# Altium schematic symbol library 20210518.SchLib: 325 symbols (part 3 of 3)
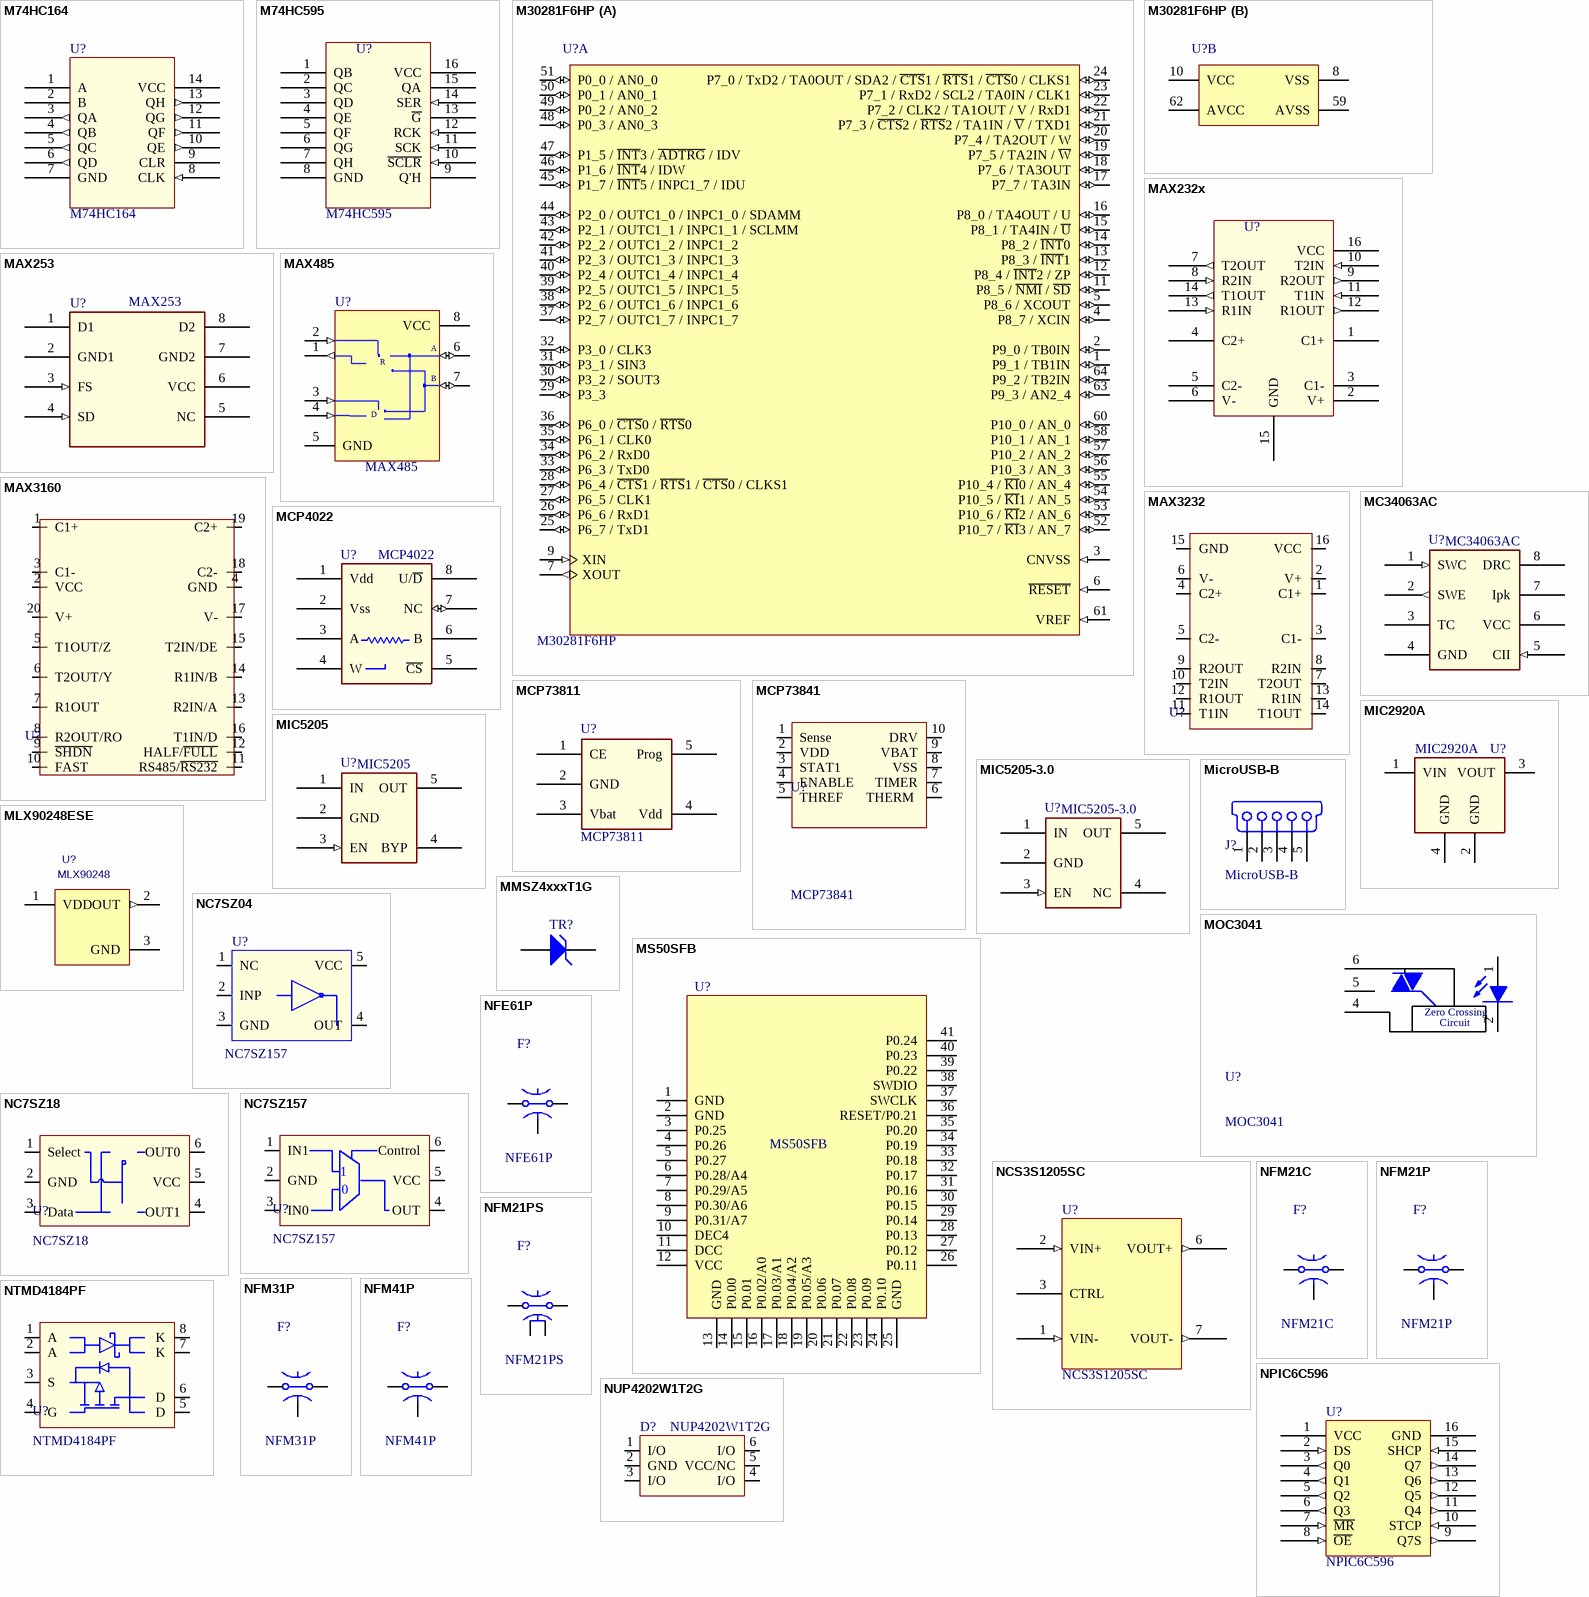
[diagram p15: symbols M74HC164 to NUP4202W1T2G]

## MC34063AC
designator U?
DC-DC Reg; Producer: ST; ComponentLink2Description: SMD; Value: MC34063AC
footprint SOIC8 (SOIC, 8-Leads, Body 5,0x4,0mm (max), Pitch 1,27mm, IPC Low Density)
footprint PDIP-8
pins: 1 SWC (in) "Switch Collector", 2 SWE (out) "Switch Emiter", 3 TC "Timing Capacitor", 4 GND (power), 5 CII (in) "Comparator Inveting Input", 6 VCC (power), 7 Ipk "Ipk sense", 8 DRC

## MCP4022
designator U?
Microchip Digital Potentiometer; ComponentLink2Description: SMD; Value: MCP4022
footprint SOIC8 (SOIC, 8-Leads, Body 5,0x4,0mm (max), Pitch 1,27mm, IPC Low Density)
pins: 1 Vdd (power), 2 Vss (power), 3 A, 4 W, 5 ~{CS} (power), 6 B, 7 NC (io), 8 U/~{D} (power)

## MCP73811
designator U?
Li-Ion Charger; Producer: Microchip; ComponentLink2Description: SMD; Value: MCP73811
footprint SOT23-5 (SOT23, 5-Leads, Body 3,0x3,0mm (max), Pitch 0,95mm, IPC Low Density)
pins: 1 CE (power) "Charge Enable", 2 GND (power), 3 Vbat (power) "Battery Power", 4 Vdd (power), 5 Prog (power) "100mA/500mA"

## MCP73841
designator U?
Li-Ion Charger; Producer: Microchip; info: Vin = 4.5V  to 12V; ComponentLink2Description: SMD; Value: MCP73841
footprint MSOP-Power Pad
pins: 1 Sense, 2 VDD, 3 STAT1, 4 ENABLE, 5 THREF, 6 THERM , 7 TIMER, 8 VSS, 9 VBAT, 10 DRV

## MIC2920A
designator U?
400mA 3.3V Low Dropout Linear Regulator; Value: MIC2920A; ComponentLink2Description: SMD; ComponentLink3Description: *
footprint SOT223 (SOT223, 4-Leads, Body 6,7x7,3mm (max), Pitch 2,30mm, IPC Low Density)
pins: 1 VIN (power), 2 GND, 3 VOUT (power), 4 GND (power)

## MIC5205
designator U?
5V LDO; Producer: Micrel; ComponentLink2Description: SMD; Value: MIC5205
footprint SOT23-5 (SOT23, 5-Leads, Body 3,0x3,0mm (max), Pitch 0,95mm, IPC Low Density)
pins: 1 IN (power), 2 GND (power), 3 EN (in), 4 BYP, 5 OUT (power)

## MIC5205-3.0
designator U?
3V LDO; Producer: Micrel; ComponentLink2Description: SMD; Value: MIC5205-3.0
footprint SOT23-5 (SOT23, 5-Leads, Body 3,0x3,0mm (max), Pitch 0,95mm, IPC Low Density)
pins: 1 IN (power), 2 GND (power), 3 EN (in), 4 NC, 5 OUT (power)

## MicroUSB-B
designator J?
Molex MicroUSB-B; Value: MicroUSB-B; ComponentLink2Description: AX; ComponentLink3Description: *
footprint MicroUSB-B (Molex MicroUSB-B Footprint)
pins: 1 V BUS (5V) "USB Vcc [Red]", 2 D- "USB Data - [White]", 3 D+ "USB Data + [Green]", 4 NC "Not Connected (or joined to pin 5 via resistor)", 5 GND "Ground [Black]", MH1 Tab hidden to GND "Shell", MH2 Tab hidden to GND "Shell", MH3 Tab hidden to GND "Shell", MH4 Tab hidden to GND "Shell"

## MLX90248ESE
designator U?, comment MLX90248
MAG SWITCH OMNIPOLAR TSOT23-3; Value: MLX90248ESE; C: Copyright (C) 2018 Accelerated Designs. All rights reserved; Vendor: Melexis; Built_By: EMA_Cory; SourceLibrary: Add_to_database_2021-05-25; Datasheet: https://www.melexis.com/-/media/files/documents/datasheets/mlx90248-datasheet-melexis.pdf; Manufacturer_Part_Number: MLX90248ESE; Copyright: Copyright (C) 2018 Accelerated Designs. All rights reserved
footprint TSOT-3L_SE_MEL
pins: 1 VDD (power), 2 OUT (out), 3 GND (power)

## MMSZ4xxxT1G
designator TR?  (value not drawn)
TVS Diode; ComponentLink2Description: SMD
footprint SOD123
pins: 1, 2

## MOC3041
designator U?
Triac Diver; ComponentLink2Description: AX; Value: MOC3041
footprint DIP-6
pins: 1 A, 2 K, 4 Main Term, 5 No, 6 Main Term
text: Zero Crossing; Circuit

## MS50SFB
designator U?
MS50SFB 1/2/3
footprint MS50SFB (Respect stay away lines if not model 3)
pins: 1 GND, 2 GND, 3 P0.25, 4 P0.26, 5 P0.27, 6 P0.28/A4, 7 P0.29/A5, 8 P0.30/A6, 9 P0.31/A7, 10 DEC4, 11 DCC, 12 VCC, 13 GND, 14 P0.00, 15 P0.01, 16 P0.02/A0, 17 P0.03/A1, 18 P0.04/A2, 19 P0.05/A3, 20 P0.06, 21 P0.07, 22 P0.08, 23 P0.09, 24 P0.10, 25 GND, 26 P0.11, 27 P0.12, 28 P0.13, 29 P0.14, 30 P0.15, 31 P0.16, 32 P0.17, 33 P0.18, 34 P0.19, 35 P0.20, 36 RESET/P0.21, 37 SWCLK, 38 SWDIO, 39 P0.22, 40 P0.23, 41 P0.24

## NC7SZ04
designator U?, comment NC7SZ157
TinyLogic UHS Inverter; Producer: fairchildsemi; ComponentLink2Description: SMD; Datasheet: https://www.fairchildsemi.com/datasheets/NC/NC7SZ157.pdf; Value: NC7SZ157
footprint SC-88A (SC-70 5 Lead) (SC-88A (SC-70 5 Lead), 1.25x2)
pins: 1 NC, 2 INP, 3 GND, 4 OUT, 5 VCC

## NC7SZ18
designator U?
UHS 1of2 Non-Inverting De-Multiplexer; Producer: fairchildsemi; ComponentLink2Description: SMD; Datasheet: https://www.fairchildsemi.com/datasheets/NC/NC7SZ18.pdf; Value: NC7SZ18
footprint SOC70 (6-Lead,SC70,EIAJ SC88,1.25mm Wide)
pins: 1 Select, 2 GND, 3 Data, 4 OUT1, 5 VCC, 6 OUT0

## NC7SZ157
designator U?
UHS 2-Input Non-Inverting Multiplexer; Producer: fairchildsemi; ComponentLink2Description: SMD; Datasheet: https://www.fairchildsemi.com/datasheets/NC/NC7SZ157.pdf; Value: NC7SZ157
footprint SOC70 (6-Lead,SC70,EIAJ SC88,1.25mm Wide)
pins: 1 IN1, 2 GND, 3 IN0, 4 OUT, 5 VCC, 6 Control
text: 0

## NCS3S1205SC
designator U?
3W DC/DC Converter, 9-36 V Input,5V Output (MURATA); ComponentLink2Description: SMD; Value: NCS3S1205SC
footprint SIP-8_7Lead (Recom RS3 Series DC/DC Converter Footprint)
pins: 1 VIN- (in), 2 VIN+ (in), 3 CTRL, 5 NC hidden, 6 VOUT+ (out), 7 VOUT- (out), 8 NC hidden

## NFE61P
designator F?
NFE EMI; Producer: Murata; ComponentLink2Description: SMD; Value: NFE61P
footprint F.2606_3 (Ferrite Bead, Body 6.8x1.6mm, 3 pin, IPC High Density)
pins: 1, 2, 3

## NFM21C
designator F?
NFM EMI; Producer: Murata; ComponentLink2Description: SMD; Value: NFM21C
footprint F.0805_3 (Chip Capacitor, Body 2.0x1.3mm, IPC High Density)
pins: 1, 2, 3

## NFM21P
designator F?
NFM EMI; Producer: Murata; ComponentLink2Description: SMD; Value: NFM21P
footprint F.0805_3 (Chip Capacitor, Body 2.0x1.3mm, IPC High Density)
footprint Fl.0805_4 (Chip Capacitor, Body 2.0x1.3mm, NFM21PS, IPC High Density)
pins: 1, 2, 3

## NFM21PS
designator F?
NFM EMI; Producer: Murata; ComponentLink2Description: SMD; Value: NFM21PS
pins: 1, 2, 3, 4

## NFM31P
designator F?
NFM EMI; Producer: Murata; ComponentLink2Description: SMD; Value: NFM31P
footprint Fl.1206_3 (Chip Capacitor, Body 3.20mm x 1.60mm, IPC High Density)
pins: 1, 2, 3

## NFM41P
designator F?
NFM EMI; Producer: Murata; ComponentLink2Description: SMD; Value: NFM41P
footprint F.1806_3 (Ferrite Bead, Body 4.5x1.6mm, 3 pin, IPC High Density)
pins: 1, 2, 3

## NPIC6C596
designator U?
Power logic 8-bit shift register; open-drain outputs; Value: NPIC6C596
footprint TSSOP16 (TSSOP, 16-Leads, Body 5,00x4,40mm, Pitch 0,65mm, IPC Medium Density)
pins: 1 VCC (power), 2 DS (in), 3 Q0 (out), 4 Q1 (out), 5 Q2 (out), 6 Q3 (out), 7 ~{MR} (in), 8 ~{OE} (in), 9 Q7S (out), 10 STCP (in), 11 Q4 (out), 12 Q5 (out), 13 Q6 (out), 14 Q7 (out), 15 SHCP (in), 16 GND (power)

## NTMD4184PF
designator U?
P Channel Power MOSFET and  Schottky Diode; Producer: ON Semiconductor; ComponentLink2Description: SMD; Datasheet: http://www.onsemi.com/pub_link/Collateral/NTMD4184PF-D.PDF; Value: NTMD4184PF
footprint SOIC8 (SOIC, 8-Leads, Body 5,0x4,0mm (max), Pitch 1,27mm, IPC Low Density)
pins: 1 A, 2 A, 3 S, 4 G, 5 D, 6 D, 7 K, 8 K

## NUP4202W1T2G
designator D?
ESD Protection Diode, Low  Clamping Voltage
footprint SC-88
pins: 1 I/O, 2 GND, 3 I/O, 4 I/O, 5 VCC/NC, 6 I/O

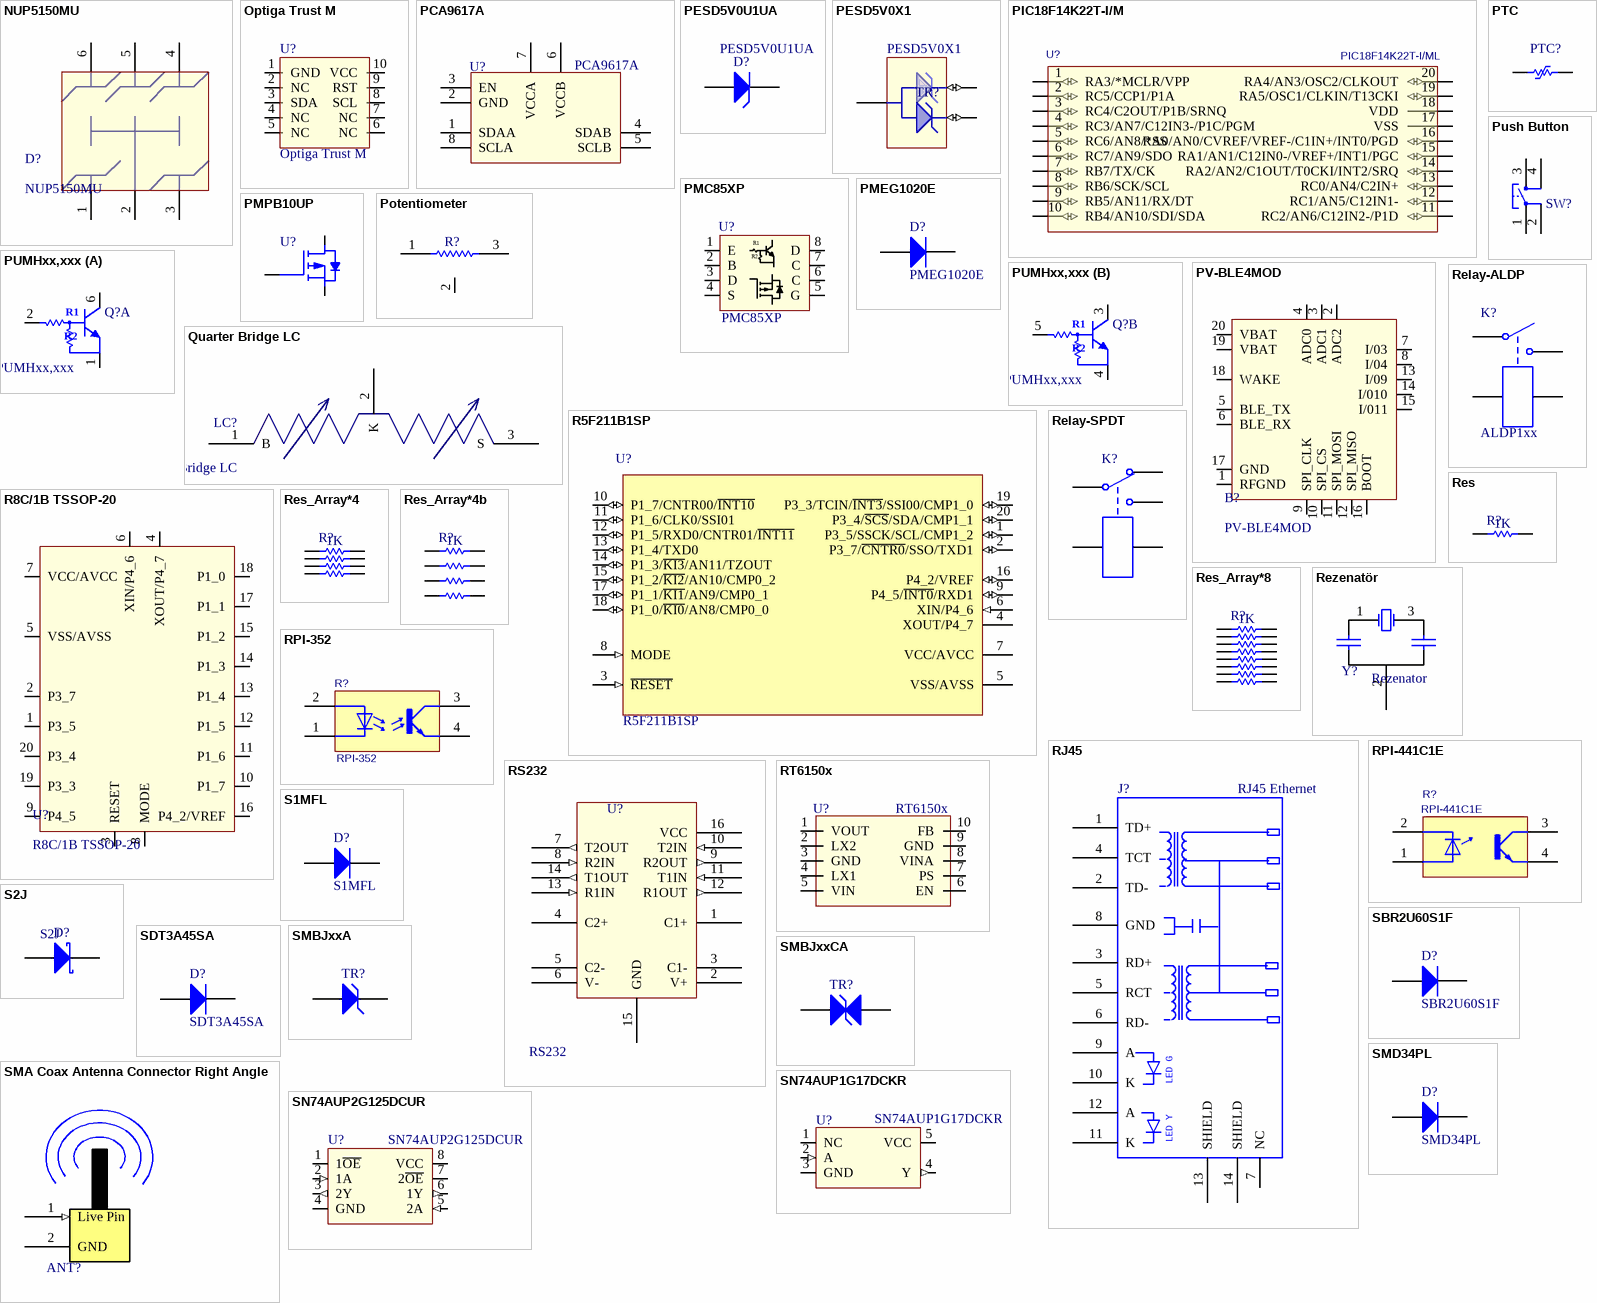
[diagram p11: symbols NUP5150MU to SN74AUP2G125DCUR]

## NUP5150MU
designator D?
5-Line Transient Voltage  Suppressor Array; Producer: Onsemi; ComponentLink2Description: SMD; Datasheet: http://www.onsemi.com/pub_link/Collateral/NUP5150-D.PDF; Value: NUP5150MU
footprint UDFN6 (.50)
pins: 1 Katot, 2 Anot, 3 Anot, 4 Anot, 5 Anot, 6 Anot

## Optiga Trust M
designator U?
Enhanced device security solution; MfcNumber: SLS32AIA010MSUSON10XTMA2; ProductLink: https://www.infineon.com/cms/en/product/security-smart-card-solutions/optiga-embedded-security-solutions/optiga-trust/optiga-trust-m-sls32aia/
footprint PG-USON-10-2/4 (PG-USON-10-2,-4 Package Outline)
pins: 1 GND, 2 NC, 3 SDA, 4 NC, 5 NC, 6 NC, 7 NC, 8 SCL, 9 RST, 10 VCC

## PCA9617A
designator U?
Level translating Fm+ I2C-bus repeater; Detailed: PCA9617A
footprint DFN200X300X60-9N
footprint TSSOP8
pins: 1 SDAA, 2 GND, 3 EN, 4 SDAB, 5 SCLB, 6 VCCB, 7 VCCA, 8 SCLA, 9 GND hidden

## PESD5V0U1UA
designator D?
Ultra low capacitance unidirectional ElectroStatic Discharge (ESD) protection diodes; Producter: NXP; ComponentLink2Description: SMD; Datasheet: http://www.nxp.com/documents/data_sheet/PESD5V0U1UA_UB_UL.pdf; Value: PESD5V0U1UA
footprint SOD323 (SODFL, 2-Leads, Body 1,30x5,35mm, IPC Medium Density)
pins: 1 K, 2 A

## PESD5V0X1
designator TR?
TVS Array; Producer: NXP; ComponentLink2Description: SMD; Value: PESD5V0X1
footprint SOT23-3 (SOT23, 3-Leads, Body 3,0x2,5mm (max), Pitch 0,95mm, IPC Low Density)
pins: 1 (io), 2 (io), 3 (power)

## PIC18F14K22T-I/M
designator U?, comment PIC18F14K22T-I/ML
PIC series Microcontroller IC 8-Bit 64MHz 16KB (8K x 16) FLASH 20-QFN (4x4); Detailed: PIC18F14K22T-I/MLCT-ND
footprint PIC18F14K22-X/01
pins: 1 RA3/*MCLR/VPP (io), 2 RC5/CCP1/P1A (io), 3 RC4/C2OUT/P1B/SRNQ (io), 4 RC3/AN7/C12IN3-/P1C/PGM (io), 5 RC6/AN8/*SS (io), 6 RC7/AN9/SDO (io), 7 RB7/TX/CK (io), 8 RB6/SCK/SCL (io), 9 RB5/AN11/RX/DT (io), 10 RB4/AN10/SDI/SDA (io), 11 RC2/AN6/C12IN2-/P1D (io), 12 RC1/AN5/C12IN1- (io), 13 RC0/AN4/C2IN+ (io), 14 RA2/AN2/C1OUT/T0CKI/INT2/SRQ (io), 15 RA1/AN1/C12IN0-/VREF+/INT1/PGC (io), 16 RA0/AN0/CVREF/VREF-/C1IN+/INT0/PGD (io), 17 VSS (power), 18 VDD (power), 19 RA5/OSC1/CLKIN/T13CKI (io), 20 RA4/AN3/OSC2/CLKOUT (io)

## PMC85XP
designator U?
MOSFET NPN/P CH 30V 2.6A 6HUSON; Bias Resistor: R1/R2 = 4k7 / 47k
footprint DFN2020-6
pins: 1 E, 2 B, 3 D, 4 S, 5 G, 6 C, 7 C, 8 D
text: R1; R2

## PMEG1020E
designator D?
DIODE SCHOTTKY 10V 2A SOD123F
footprint SOD123F
pins: 1, 2

## PMPB10UP
designator U?  (value not drawn)
12 V, P-channel Trench MOSFET
footprint U-DFN2020-6
pins: 1 D, 2 D, 3 G, 4 S, 5 D, 6 D, 7 D, 8 S

## Potentiometer
designator R?  (value not drawn)
Potentiometer; ComponentLink2Description: SMD; Value: *
simulation model RESISTOR (Resistor)
signal-integrity model Res
footprint Potentiometer (Bourns Potentiometer)
pins: 1, 2, 3 A

## PTC
designator PTC?
Polymeric PTC Resettable Fuse 0805; Supplier Part Number 1: 0ZCH0010FF2E
footprint SMD Chip 0805 (Custom 0805 Package)
footprint 0ZCH0010FF2E (Polymeric PTC Resettable Fuse 60V 100mA Ih Surface Mount 1210 (3225 Metric), Concave)
pins: 1, 2

## PUMHxx,xxx
designator Q?
TRANS 2NPN PREBIAS 0.3W 6TSSOP; PUMH10,115: 2k2/47k; PUMH20,115: 2k2/2k2; PUMH9,115: 10k/47k
footprint SOT-363
part A pins: 1 E1, 2 B1, 6 C1
part B pins: 3 C2, 4 E2, 5 B2
part A text: R1; R2
part B text: R1; R2

## Push Button
designator SW?  (value not drawn)
footprint Tact_THD_6x6_17mm
pins: 1, 2, 3, 4

## PV-BLE4MOD
designator B?
Bluetooth Low Energy Modül; Producer: Pavotek; Value: PV-BLE4MOD; ComponentLink2Description: SMD; DataSheet: -
footprint PV-BLE4MOD
pins: 1 RFGND, 2 ADC2, 3 ADC1, 4 ADC0, 5 BLE_TX, 6 BLE_RX, 7 I/03, 8 I/04, 9 SPI_CLK, 10 SPI_CS, 11 SPI_MOSI, 12 SPI_MISO, 13 I/09, 14 I/010, 15 I/011, 16 BOOT, 17 GND, 18 WAKE, 19 VBAT, 20 VBAT

## Quarter Bridge LC
designator LC?
Value: Quarter Bridge LC
pins: 1 B, 2 K, 3 S

## R5F211B1SP
designator U?
R8C/1B Group Single Chip 16-Bit CMOS MCU, 4K ROM, Standard Version; Published: 30-Oct-2009; DatasheetVersion: Rev.1.40, Dec-2006; PackageVersion: Sep-2005; PackageReference: PLSP0020JB-A; Publisher: Altium Limited; PackageDescription: 20-Pin Plastic Low Profile Shrink SOP, 6.5 x 4.4 x 1.15 mm Body, 0.65 mm Pitch; Code_JEITA: P-LSSOP20-4.4x6.5-0.65; Code_JEDEC: MO-152-AC; ComponentLink1Description: Manufacturer Link; ComponentLink1URL: http://sg.renesas.com/fmwk.jsp?cnt=r8c_family_landing.jsp&fp=/products/mpumcu/r8c_family/; ComponentLink2Description: Datasheet; ComponentLink2URL: http://documentation.renesas.com/eng/products/mpumcu/rej03b0144_r8c1a1bds.pdf; ComponentLink3Description: Packaging Specification; ComponentLink3URL: http://sg.renesas.com/media/products/common_info/package/pdf/ic/code/plsp0020jb_a.pdf; ComponentLink2Description: SMD; Value: R5F211B1SP
footprint TSOP20 (TSOP, 20-Leads, Body 6,6x4,5mm (max), Pitch 0,65mm, IPC Medium Density)
pins: 1 P3_5/SSCK/SCL/CMP1_2 (io), 2 P3_7/~{CNTR0}/SSO/TXD1 (io), 3 ~{RESET} (in), 4 XOUT/P4_7, 5 VSS/AVSS (power), 6 XIN/P4_6 (in), 7 VCC/AVCC (power), 8 MODE (in), 9 P4_5/~{INT0}/RXD1 (io), 10 P1_7/CNTR00/~{INT10} (io), 11 P1_6/CLK0/SSI01 (io), 12 P1_5/RXD0/CNTR01/~{INT11} (io), 13 P1_4/TXD0 (io), 14 P1_3/~{KI3}/AN11/TZOUT (io), 15 P1_2/~{KI2}/AN10/CMP0_2 (io), 16 P4_2/VREF (io), 17 P1_1/~{KI1}/AN9/CMP0_1 (io), 18 P1_0/~{KI0}/AN8/CMP0_0 (io), 19 P3_3/TCIN/~{INT3}/SSI00/CMP1_0 (io), 20 P3_4/~{SCS}/SDA/CMP1_1 (io)

## R8C/1B TSSOP-20
designator U?
Renesas MCU
footprint TSSOP-20
pins: 1 P3_5, 2 P3_7, 3 RESET, 4 XOUT/P4_7, 5 VSS/AVSS, 6 XIN/P4_6, 7 VCC/AVCC, 8 MODE, 9 P4_5, 10 P1_7, 11 P1_6, 12 P1_5, 13 P1_4, 14 P1_3, 15 P1_2, 16 P4_2/VREF, 17 P1_1, 18 P1_0, 19 P3_3, 20 P3_4

## Relay-ALDP
designator K?, comment ALDP1xx
Panasonic LD-P Relays, 1 Form A; Value: ALDP1xx
footprint RELAY-ALDP
pins: 1, 2, 3, 4

## Relay-SPDT
designator K?
Single-Pole Dual-Throw Relay; Published: 24-Mar-1999; LatestRevisionDate: 17-Jul-2002; LatestRevisionNote: Re-released for DXP Platform.; PackageReference: MODULE5B; Publisher: Altium Limited
footprint Relay-SPDT
pins: 1, 2, 3, 4, 5

## Res
designator R?, comment 1K
Resistor; ComponentLink2Description: SMD; Value: 1K
simulation model RESISTOR (Resistor)
signal-integrity model Res
footprint R.0603 (Chip Resistor, Body 1.6x0.8mm, IPC High Density)
footprint R.0805 (Chip Resistor, Body 2.0x1.3mm, IPC High Density)
footprint R.1206 (Chip Resistor, Body 3.1x1.6mm, IPC High Density)
footprint AXIAL-7.62PX0.85HLX5.08LX1.524WX1.524H (Axial Device, 7.62 pin space, body 5.05mmx1.524mm, 0.85mm hole, 1.524mm height)
footprint 14-1210 (Chip Resistor, Body 3.2x2.5mm, IPC High Density)
footprint R.2512
pins: 1, 2

## Res_Array*4
designator R?, comment 1K
Resistor; ComponentLink2Description: SMD; Value: 1K
simulation model RESISTOR (Resistor)
signal-integrity model Res
footprint Rx4.1206 (4xChip Resistor, Body 1.6x0.8mm, IPC High Density)
pins: 1, 2, 3, 4, 5, 6, 7, 8

## Res_Array*4b
designator R?, comment 1K
Resistor; ComponentLink2Description: SMD; Value: 1K
simulation model RESISTOR (Resistor)
signal-integrity model Res
footprint Rx4.1206 (4xChip Resistor, Body 1.6x0.8mm, IPC High Density)
pins: 1, 2, 3, 4, 5, 6, 7, 8

## Res_Array*8
designator R?, comment 1K
Resistor; ComponentLink2Description: SMD; Value: 1K
simulation model RESISTOR (Resistor)
signal-integrity model Res
pins: 1, 2, 3, 4, 5, 6, 7, 8, 9, 10, 11, 12, 13, 14, 15, 16

## Rezenatör
designator Y?, comment Rezenator
Value: Rezenator
pins: 1 OSC1, 2, 3 OSC2

## RJ45
designator J?, comment RJ45 Ethernet
Trafolu Ethernet Konektörü; Value: RJ45 Ethernet
footprint RJ45_Magnets (Chip Resistor, Body 3.1x1.6mm, IPC High Density)
pins: 1 TD+, 2 TD-, 3 RD+, 4 TCT, 5 RCT, 6 RD-, 7 NC, 8 GND, 9 A, 10 K, 11 K, 12 A, 13 SHIELD, 14 SHIELD
text: LED G; LED Y

## RPI-352
designator R?
SENSOR OPT SLOT PHOTOTRAN PCB MT; C: Copyright (C) 2018 Accelerated Designs. All rights reserved; Vendor: ROHM Semiconductor; Built_By: EMA_Matt; SourceLibrary: Rohm_2019-09-23; Value: RPI-352; Manufacturer_Part_Number: RPI-352; Copyright: Copyright (C) 2018 Accelerated Designs. All rights reserved
footprint TRANS_RPI-3_ROM
pins: 1, 2, 3, 4

## RPI-441C1E
designator R?
SENSOR OPT SLOT TRANSISTOR MODUL; C: Copyright (C) 2018 Accelerated Designs. All rights reserved; Vendor: ROHM Semiconductor; Built_By: EMA_Matt; SourceLibrary: Rohm_2019-09-23; Value: RPI-441C1E; Manufacturer_Part_Number: RPI-441C1E; Copyright: Copyright (C) 2018 Accelerated Designs. All rights reserved
footprint TRANS_RPI-441_RO
pins: 1, 2, 3, 4

## RS232
designator U?
Dual RS232 Driver/Receiver; ComponentLink2Description: SMD; Value: RS232
footprint SOIC16 (SOIC, 16-Leads, Body 10,0x4,0mm (max), Pitch 1,27mm, IPC Low Density)
pins: 1 C1+, 2 V+ (power), 3 C1-, 4 C2+, 5 C2-, 6 V- (power), 7 T2OUT (out), 8 R2IN (in), 9 R2OUT (out), 10 T2IN (in), 11 T1IN (in), 12 R1OUT (out), 13 R1IN (in), 14 T1OUT (out), 15 GND (power), 16 VCC (power)

## RT6150x
designator U?
Current Mode Buck-Boost Converter
footprint VSON-10-DSK0010A/DRC0010J (3 mm x 3 mm)
pins: 1 VOUT, 2 LX2, 3 GND, 4 LX1, 5 VIN, 6 EN, 7 PS, 8 VINA, 9 GND, 10 FB

## S1MFL
designator D?
Diode Standard 1000V 1A Surface Mount SOD-123F; Supplier 1: Future Electronics; Supplier Part Number 1: S1MFL-REEL
footprint SOD123F
pins: 1 A, 2 K

## S2J
designator D?
Schottky Diode, S2J; ComponentLink2Description: SMD; Value: S2J
signal-integrity model D Schottky
footprint DIOM_DO214AC_SMA (Molded Diode, 2-Leads, Body 4,3x2,6mm, IPC Low Density)
pins: 1, 2

## SBR2U60S1F
designator D?
DIODE SBR 60V 2A SOD123F
footprint SOD123F
pins: 1, 2

## SDT3A45SA
designator D?
Diode Schottky 45V 3A Surface Mount SMA
footprint DO-214AC-SMA (No Polarity)
pins: 1, 2

## SMA Coax Antenna Connector Right Angle
designator ANT?  (value not drawn)
footprint SMA_90 (90 Degree SMA Connector)
pins: 1 Live Pin (in), 2 GND

## SMBJxxA
designator TR?
TVS Diode; ComponentLink2Description: SMD
footprint DO-214AC-SMA (No Polarity)
pins: 1, 2

## SMBJxxCA
designator TR?
TVS DIODE; ComponentLink2Description: SMD
footprint DO-214AC-SMA (No Polarity)
pins: 1, 2

## SMD34PL
designator D?
DIODE SCHOTTKY 3A 40V SOD123FL
footprint SOD123F
pins: 1, 2

## SN74AUP1G17DCKR
designator U?
IC BUF NON-INVERT 3.6V SC70-5
footprint SC-88A (SC-70 5 Lead) (SC-88A (SC-70 5 Lead), 1.25x2)
footprint SOT23-5 (SOT23, 5-Leads, Body 3,0x3,0mm (max), Pitch 0,95mm, IPC Low Density)
pins: 1 NC, 2 A (in), 3 GND, 4 Y (out), 5 VCC

## SN74AUP2G125DCUR
designator U?
IC BUFFER NON-INVERT 3.6V US8
footprint DCU (S-PDSO-G8) (PowerPAD PLASTIC  SMALL OUTLINE)
pins: 1 1~{OE}, 2 1A (in), 3 2Y (out), 4 GND, 5 2A (in), 6 1Y (out), 7 2~{OE}, 8 VCC

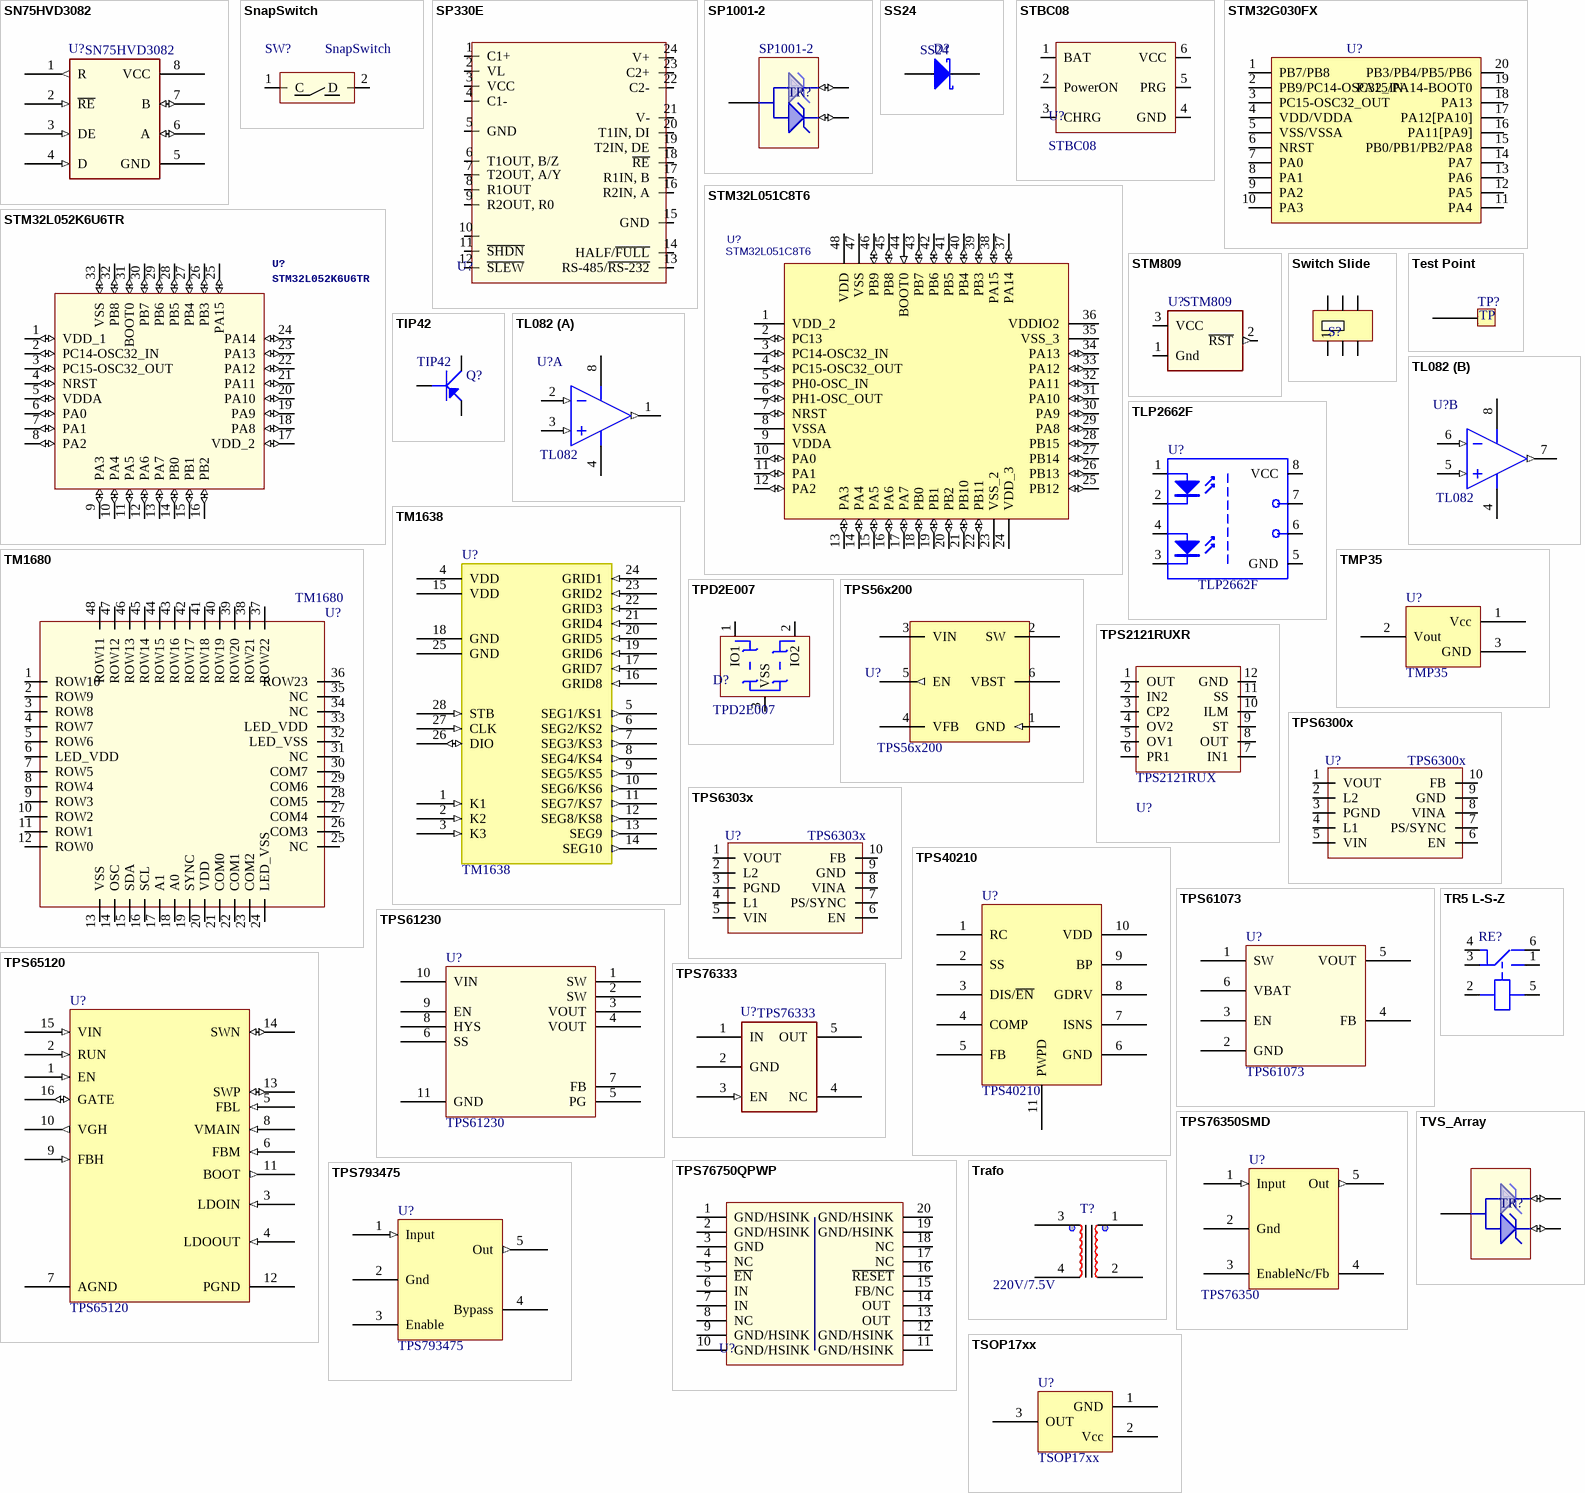
[diagram p12: symbols SN75HVD3082 to TVS_Array]

## SN75HVD3082
designator U?
RS485 Tranciever; Producer: Texas; ComponentLink2Description: SMD; Value: SN75HVD3082
footprint SOIC8 (SOIC, 8-Leads, Body 5,0x4,0mm (max), Pitch 1,27mm, IPC Low Density)
pins: 1 R (out), 2 ~{RE} (in), 3 DE (in), 4 D (in), 5 GND (power), 6 A (io), 7 B (io), 8 VCC (power)

## SnapSwitch
designator SW?
SWITCH SNAP ACTION SPDT 300MA 6V
footprint SnapSwitch_ ESE13H01D
pins: 1 C, 2 D

## SP330E
designator U?  (value not drawn)
SP330E RS-232/RS-485/RS-422 TRANSCEIVER
footprint TSSOP-24
pins: 1 C1+, 2 VL, 3 VCC, 4 C1-, 5 GND, 6 T1OUT, B/Z, 7 T2OUT, A/Y, 8 R1OUT, 9 R2OUT, R0, 10, 11 ~{SHDN}, 12 ~{SLEW}, 13 RS-485/~{RS}~{-232}, 14 HALF/~{FULL}, 15 GND, 16 R2IN, A, 17 R1IN, B, 18 ~{RE}, 19 T2IN, DE, 20 T1IN, DI, 21 V-, 22 C2-, 23 C2+, 24 V+

## SP1001-2
designator TR?
TVS Array; Producer: Littel Fuse; ComponentLink2Description: SMD; Value: SP1001-2
footprint SC70-3 (SC70-3, 3-Leads, Body 2,3x2,4mm (max), Pitch 0,66mm, IPC Low Density)
pins: 1 (io), 2 (io), 3 (power)

## SS24
designator D?
Schottky Diode, SS24; ComponentLink2Description: SMD; Value: SS24
signal-integrity model D Schottky
footprint DIOM_DO214AC_SMA (Molded Diode, 2-Leads, Body 4,3x2,6mm, IPC Low Density)
pins: 1 A, 2 K

## STBC08
designator U?
800 mA standalone linear Li-Ion battery charger   with thermal regulation; datasheet: http://www.st.com/content/ccc/resource/technical/document/datasheet/32/cd/28/84/1b/53/4e/7d/CD00132950.pdf/files/CD00132950.pdf/jcr:content/translations/en.CD00132950.pdf
footprint DFN6 (DFN6 (3x3 mm))
pins: 1 BAT, 2 PowerON, 3 CHRG, 4 GND, 5 PRG, 6 VCC

## STM32G030FX
designator U?  (value not drawn)
Arm® Cortex®-M0+ 32-bit MCU, up to 64 KB Flash, 8 KB RAM, / 2x USART, timers, ADC, comm. I/Fs, 2.0-3.6V; ComponentLink1Description: digikey; ComponentLink1URL: https://www.digikey.com/product-detail/en/stmicroelectronics/STM32G030F6P6/STM32G030F6P6-ND/10326686; ComponentLink2Description: datasheet; ComponentLink2URL: https://www.st.com/resource/en/datasheet/stm32g030f6.pdf
footprint TSSOP20
pins: 1 PB7/PB8, 2 PB9/PC14-OSC32_IN, 3 PC15-OSC32_OUT, 4 VDD/VDDA, 5 VSS/VSSA, 6 NRST, 7 PA0, 8 PA1, 9 PA2, 10 PA3, 11 PA4, 12 PA5, 13 PA6, 14 PA7, 15 PB0/PB1/PB2/PA8, 16 PA11[PA9], 17 PA12[PA10], 18 PA13, 19 PA15/PA14-BOOT0, 20 PB3/PB4/PB5/PB6

## STM32L051C8T6
designator U?
ARM® Cortex®-M0+ series Microcontroller IC 32-Bit 32MHz 64KB (64K x 8) FLASH 48-LQFP (7x7); C: Copyright (C) 2016 Accelerated Designs. All rights reserved; Vendor: STMicroelectronics; Built_By: EMA_UL_Team; SourceLibrary: Updates_to_database_2020-10-19; Value: STM32L051C8T6; Manufacturer_Part_Number: STM32L051C8T6; Copyright: Copyright (C) 2018 Accelerated Designs. All rights reserved
footprint LQFP48 (LQFP, 48-Leads, Body 9,1x9,1mm (max), Pitch 0,50mm, IPC Medium Density)
footprint LQFP48-Small
pins: 1 VDD_2 (power), 2 PC13 (io), 3 PC14-OSC32_IN (io), 4 PC15-OSC32_OUT (io), 5 PH0-OSC_IN (io), 6 PH1-OSC_OUT (io), 7 NRST (io), 8 VSSA (power), 9 VDDA (power), 10 PA0 (io), 11 PA1 (io), 12 PA2 (io), 13 PA3 (io), 14 PA4 (io), 15 PA5 (io), 16 PA6 (io), 17 PA7 (io), 18 PB0 (io), 19 PB1 (io), 20 PB2 (io), 21 PB10 (io), 22 PB11 (io), 23 VSS_2 (power), 24 VDD_3 (power), 25 PB12 (io), 26 PB13 (io), 27 PB14 (io), 28 PB15 (io), 29 PA8 (io), 30 PA9 (io), 31 PA10 (io), 32 PA11 (io), 33 PA12 (io), 34 PA13 (io), 35 VSS_3 (power), 36 VDDIO2 (power), 37 PA14 (io), 38 PA15 (io), 39 PB3 (io), 40 PB4 (io), 41 PB5 (io), 42 PB6 (io), 43 PB7 (io), 44 BOOT0 (in), 45 PB8 (io), 46 PB9 (io), 47 VSS (power), 48 VDD (power)

## STM32L052K6U6TR
designator U?
ARM® Cortex®-M0+ STM32L0 Microcontroller IC 32-Bit 32MHz 32KB (32K x 8) FLASH 32-UFQFPN (5x5); Detailed: STM32L052K6U6TR
footprint UFQFPN 32 (5x5) - STM32L052K6U6TR
pins: 1 VDD_1 (io), 2 PC14-OSC32_IN (io), 3 PC15-OSC32_OUT (io), 4 NRST (io), 5 VDDA (io), 6 PA0 (io), 7 PA1 (io), 8 PA2 (io), 9 PA3 (io), 10 PA4 (io), 11 PA5 (io), 12 PA6 (io), 13 PA7 (io), 14 PB0 (io), 15 PB1 (io), 16 PB2 (io), 17 VDD_2 (io), 18 PA8 (io), 19 PA9 (io), 20 PA10 (io), 21 PA11 (io), 22 PA12 (io), 23 PA13 (io), 24 PA14 (io), 25 PA15 (io), 26 PB3 (io), 27 PB4 (io), 28 PB5 (io), 29 PB6 (io), 30 PB7 (io), 31 BOOT0 (io), 32 PB8 (io), 33 VSS (io)

## STM809
designator U?
Reset Circuit, STM809; ComponentLink2Description: SMD; Value: STM809
footprint SOT23-3 (SOT23, 3-Leads, Body 3,0x2,5mm (max), Pitch 0,95mm, IPC Low Density)
pins: 1 Gnd (power), 2 ~{RST} (out), 3 VCC

## Switch Slide
designator S?, comment Switch Slide, DPDT 6Pin  (value not drawn)
Value: Switch Slide, DPDT 6Pin; ComponentLink2Description: AX
footprint Switch Slide (Switch Slide, DPDT 6Pin)
pins: 1, 2, 3, 4, 5, 6

## Test Point
designator TP?  (value not drawn)  (no BOM)
Custom Test Point
footprint TestPoint (Custom Test Point)
footprint TestPoint-SMD (Custom Test Point)
pins: 1
text: TP

## TIP42
designator Q?
Transistor, TIP42; ComponentLink2Description: AXIAL; ComponentLink3Description: ETRTIP42; Value: TIP42
footprint TO220 - yatik
pins: 1 B, 2 C, 3 E

## TL082
designator U?
Dual Opamp; ComponentLink3Description: MUA08A Package Page; ComponentLink2Description: SMD; Value: TL082
footprint SOIC8 (SOIC, 8-Leads, Body 5,0x4,0mm (max), Pitch 1,27mm, IPC Low Density)
pins on every part: 4 V- (power), 8 V+ (power)
part A pins: 1 OUTA (out), 2 INA- (in), 3 INA+ (in)
part B pins: 5 INB+ (in), 6 INB- (in), 7 OUTB (out)

## TLP2662F
designator U?, comment http://eu.mouser.com/ProductDetail/Toshiba/TLP2662F/?qs=7hO1d5R1Vgu8wz1vtHOfQA%3D%3D  (value not drawn)
Photocouplers, Dual,10 MBd, Inverted Logic; Datasheet: http://eu.mouser.com/ProductDetail/Toshiba/TLP2662F/?qs=7hO1d5R1Vgu8wz1vtHOfQA%3D%3D; Value: TLP2662F
pins: 1 A1 "Anode", 2 K1 "Cathode", 3 K2 (power) "Emitter", 4 A2 "Collector", 5 GND "Collector", 6 Vo2 "Collector", 7 Vo1 "Collector", 8 VCC "Collector"

## TM1638
designator U?
10 pieces 7 segment display driver
footprint SOIC28W (SOIC, 28-Leads, Body 17.90x7.55mm, Pitch 1.27mm, IPC Medium Density)
pins: 1 K1 (in), 2 K2 (in), 3 K3 (in), 4 VDD (power), 5 SEG1/KS1 (out), 6 SEG2/KS2 (out), 7 SEG3/KS3 (out), 8 SEG4/KS4 (out), 9 SEG5/KS5 (out), 10 SEG6/KS6 (out), 11 SEG7/KS7 (out), 12 SEG8/KS8 (out), 13 SEG9 (out), 14 SEG10 (out), 15 VDD (power), 16 GRID8 (in), 17 GRID7 (in), 18 GND, 19 GRID6 (in), 20 GRID5 (in), 21 GRID4 (in), 22 GRID3 (in), 23 GRID2 (in), 24 GRID1 (in), 25 GND, 26 DIO (io), 27 CLK (in), 28 STB (in)

## TM1680
designator U?
24 pieces 7 segment display driver
footprint LQFP48 (LQFP, 48-Leads, Body 9,1x9,1mm (max), Pitch 0,50mm, IPC Medium Density)
pins: 1 ROW10, 2 ROW9, 3 ROW8, 4 ROW7, 5 ROW6, 6 LED_VDD, 7 ROW5, 8 ROW4, 9 ROW3, 10 ROW2, 11 ROW1, 12 ROW0, 13 VSS, 14 OSC, 15 SDA, 16 SCL, 17 A1, 18 A0, 19 SYNC, 20 VDD, 21 COM0, 22 COM1, 23 COM2, 24 LED_VSS, 25 NC, 26 COM3, 27 COM4, 28 COM5, 29 COM6, 30 COM7, 31 NC, 32 LED_VSS, 33 LED_VDD, 34 NC, 35 NC, 36 ROW23, 37 ROW22, 38 ROW21, 39 ROW20, 40 ROW19, 41 ROW18, 42 ROW17, 43 ROW16, 44 ROW15, 45 ROW14, 46 ROW13, 47 ROW12, 48 ROW11

## TMP35
designator U?
Low Voltage Temperature Sensor; Value: TMP35; ComponentLink2Description: AX; ComponentLink3Description: *
footprint HDR3 (Connector; Header; 3 Position)
pins: 1 Vcc, 2 Vout, 3 GND

## TPD2E007
designator D?
TPD2E007 2-Channel ESD Protection Array for AC-Coupled/Negative-Rail Data Interfaces; Producer: Texas Instruments; ComponentLink2Description: SMD; Datasheet: http://www.ti.com/lit/ds/symlink/tpd2e007.pdf; Value: TPD2E007
footprint DCK(R-PDSO-G3) (PLASTIC  SMALL OUTLINE PACKAGE)
pins: 1 IO1, 2 IO2, 3 VSS

## TPS56x200
designator U?
TPS56x200 4.5-V To 17-V Input, 2-A, 3-A Synchronous Step-Down Voltage Regulator In  6 Pin SOT-23; ComponentLink2Description: SMD; Value: TPS56x200
footprint DDC(R-PDSO-G6) (TI)
pins: 1 GND (in) "INPUT", 2 SW (power), 3 VIN, 4 VFB, 5 EN (out) "out", 6 VBST

## TPS2121RUXR
designator U?, comment TPS2121RUX
OR Controller Source Selector Switch N-Channel
footprint VQFN-HR-20 (TPS2121 (RUX) Package 12-Pin VQFN-HR)
pins: 1 OUT, 2 IN2, 3 CP2, 4 OV2, 5 OV1, 6 PR1, 7 IN1, 8 OUT, 9 ST, 10 ILM, 11 SS, 12 GND

## TPS6300x
designator U?
High-Efficient Single Inductor Buck-Boost Converter With 1.8-A Switches
footprint VSON-10-DRC0010J (3 mm x 3 mm)
pins: 1 VOUT, 2 L2, 3 PGND, 4 L1, 5 VIN, 6 EN, 7 PS/SYNC, 8 VINA, 9 GND, 10 FB

## TPS6303x
designator U?
High Efficiency Single Inductor Buck-Boost Converter With 1-A Switches
footprint WSON-10-DSK0010A (2.50 mm x 2.50 mm)
pins: 1 VOUT, 2 L2, 3 PGND, 4 L1, 5 VIN, 6 EN, 7 PS/SYNC, 8 VINA, 9 GND, 10 FB

## TPS40210
designator U?
4.5-V to 52-V INPUT CURRENT-MODE BOOST CONTROLLER; Value: TPS40210
footprint MSOP-Power Pad
pins: 1 RC, 2 SS, 3 DIS/~{EN}, 4 COMP, 5 FB, 6 GND, 7 ISNS, 8 GDRV, 9 BP, 10 VDD, 11 PWPD

## TPS61073
designator U?
Synchronous Boost With 600-mA Switch; ComponentLink2Description: SMD; Value: TPS61073
footprint SOT23-6 (SOT23, 6-Leads, Body 3,0x3,0mm (max), Pitch 0,95mm, IPC Low Density)
pins: 1 SW, 2 GND, 3 EN, 4 FB, 5 VOUT, 6 VBAT

## TPS61230
designator U?
Synchronous Step Up  with 5-A Switches; ComponentLink2Description: SMD; Value: TPS61230
footprint DRC0010G
pins: 1 SW, 2 SW, 3 VOUT, 4 VOUT, 5 PG, 6 SS, 7 FB, 8 HYS, 9 EN, 10 VIN, 11 GND

## TPS65120
designator U?
SINGLE-INDUCTOR QUADRUPLE-OUTPUT TFT LCD POWER SUPPLY; Value: TPS65120
footprint PQFN127P600-8N
pins: 1 EN (in), 2 RUN (in), 3 LDOIN (in), 4 LDOOUT (in), 5 FBL (in), 6 FBM (in), 7 AGND (power), 8 VMAIN (in), 9 FBH (in), 10 VGH (out), 11 BOOT (out), 12 PGND (power), 13 SWP (io), 14 SWN (io), 15 VIN (in), 16 GATE (io)

## TPS76333
designator U?
3V3 LDO; Producer: Texas Inst.; ComponentLink2Description: SMD; Value: TPS76333
footprint SOT23-5 (SOT23, 5-Leads, Body 3,0x3,0mm (max), Pitch 0,95mm, IPC Low Density)
pins: 1 IN (power), 2 GND (power), 3 EN (in), 4 NC, 5 OUT (power)

## TPS76350SMD
designator U?, comment TPS76350
5V LDO; ComponentLink2Description: SMD; Value: TPS76350
footprint SOT23-5 (SOT23, 5-Leads, Body 3,0x3,0mm (max), Pitch 0,95mm, IPC Low Density)
pins: 1 Input (in) "INPUT", 2 Gnd (power), 3 Enable, 4 Nc/Fb, 5 Out (out) "out"

## TPS76750QPWP
designator U?  (value not drawn)
TPS767xxQ Fast-Transient-Response 1-A Low-Dropout Linear Regulators; Producer: ?; ComponentLink2Description: SMD; Value: TPS76750QPWP; Footprint: HTSSOP20
footprint HTSSOP20 (PowerPAD Plastic Small)
pins: 1 GND/HSINK, 2 GND/HSINK, 3 GND, 4 NC, 5 ~{EN}, 6 IN, 7 IN, 8 NC, 9 GND/HSINK, 10 GND/HSINK, 11 GND/HSINK, 12 GND/HSINK, 13 OUT , 14 OUT , 15 FB/NC, 16 ~{RESET}, 17 NC, 18 NC, 19 GND/HSINK, 20 GND/HSINK

## TPS793475
designator U?
4.75V LDO; ComponentLink2Description: SMD; Value: TPS793475
footprint SOT23-5 (SOT23, 5-Leads, Body 3,0x3,0mm (max), Pitch 0,95mm, IPC Low Density)
pins: 1 Input (in) "INPUT", 2 Gnd (power), 3 Enable, 4 Bypass, 5 Out (out) "OUT"

## TR5 L-S-Z
designator RE?  (value not drawn)
Filename: TR5 L-S-Z
footprint TR5 L-S-Z (Relay)
pins: 1 NO, 2 B2, 3 Com, 4 Com1, 5 B1, 6 NC

## Trafo
designator T?, comment 220V/7.5V
220V/7.5V Trafo; ComponentLink2Description: AX; Value: 220V/7.5V
footprint EI30/15,5
pins: 1, 2, 3, 4

## TSOP17xx
designator U?
IR Receiver; Value: TSOP17xx; ComponentLink2Description: AX; ComponentLink3Description: *
footprint TSOP17xx (TSOP17xx IR Reciever Footprint)
pins: 1 GND (power), 2 Vcc (power), 3 OUT

## TVS_Array
designator TR?
TVS Array; ComponentLink2Description: SMD
footprint SC70-3 (SC70-3, 3-Leads, Body 2,3x2,4mm (max), Pitch 0,66mm, IPC Low Density)
footprint SOT23-3 (SOT23, 3-Leads, Body 3,0x2,5mm (max), Pitch 0,95mm, IPC Low Density)
footprint SOT23-3_SC70-3 (SOT23, 3-Leads, Body 3,0x2,5mm (max), Pitch 0,95mm, IPC Low Density)
pins: 1 (io), 2 (io), 3 (power)

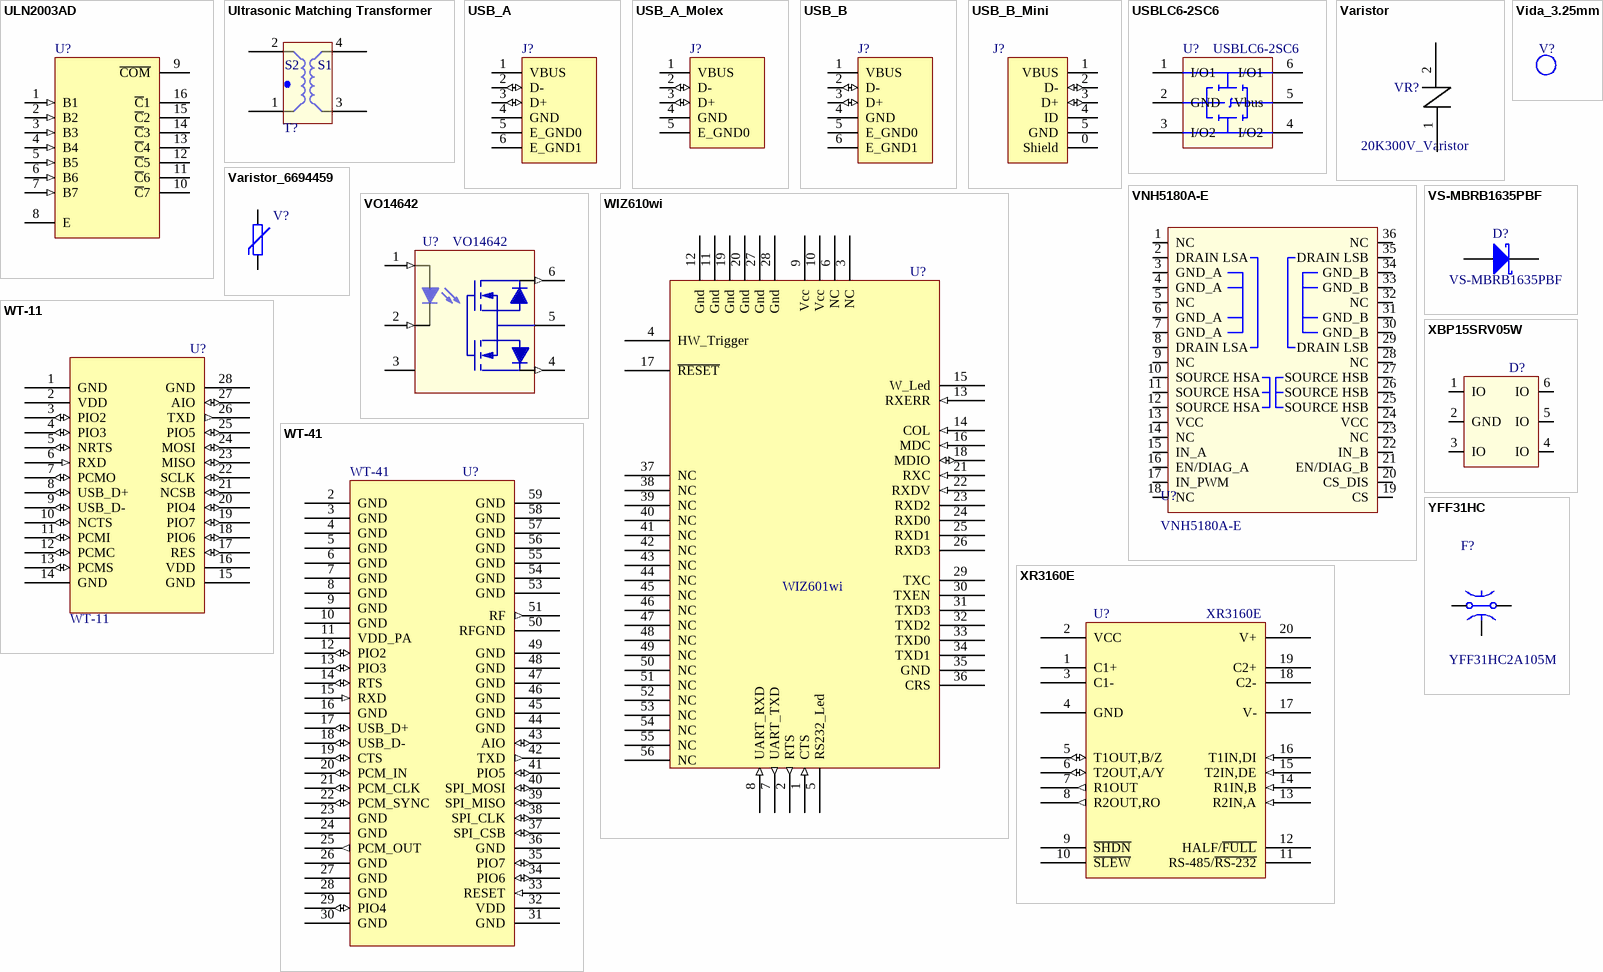
[diagram p13: symbols ULN2003AD to YFF31HC]

## ULN2003AD
designator U?
Darlington Transistor Array; Published: 15-May-2002; LatestRevisionDate: 13-Apr-2006; LatestRevisionNote: IPC-7351 Footprint Added.; DatasheetVersion: Sep-1986; PackageVersion: Jan-1998; PackageReference: D016; Publisher: Altium Limited; PackageDescription: 16-Pin Small Outline Integrated Circuit 1.27 mm Pitch; Code_IPC: SOIC127P600-16; ComponentLink1Description: Manufacturer Link; ComponentLink1URL: http://www.ti.com/; ComponentLink2Description: Datasheet; ComponentLink2URL: http://www-s.ti.com/sc/ds/uln2002a.pdf
3D model D016 (16-Pin Small Outline Integrated Circuit 1.27 mm Pitch)
footprint SOIC16 (SOIC, 16-Leads, Body 10,0x4,0mm (max), Pitch 1,27mm, IPC Low Density)
pins: 1 B1 (in), 2 B2 (in), 3 B3 (in), 4 B4 (in), 5 B5 (in), 6 B6 (in), 7 B7 (in), 8 E (power), 9 ~{COM}, 10 ~{C}7 (oc), 11 ~{C}6 (oc), 12 ~{C}5 (oc), 13 ~{C}4 (oc), 14 ~{C}3 (oc), 15 ~{C}2 (oc), 16 ~{C}1 (oc)

## Ultrasonic Matching Transformer
designator T?  (value not drawn)
Prowave Matching Transformer; Value: *
footprint Ultrasonic Transformer (Prowave Ultrasonic Transformer)
pins: 1, 2, 3, 4
text: S2; S1

## USB_A
designator J?
USB A type connector
signal-integrity model Connector
footprint USB_A (USB Type A Connector)
pins: 1 VBUS (power), 2 D- (io), 3 D+ (io), 4 GND (power), 5 E_GND0 (power), 6 E_GND1 (power)

## USB_A_Molex
designator J?
USB A type connector; Producter: Molex; Type: USB TYPE-A
footprint Molex USBType A DIP (480370001)
footprint Molex USBType A SMD (480372200)
pins: 1 VBUS (power), 2 D- (io), 3 D+ (io), 4 GND (power), 5 E_GND0 (power)

## USB_B
designator J?
USB B type connector
signal-integrity model Connector
footprint USB_B (USB B type shielded connector)
pins: 1 VBUS (power), 2 D- (io), 3 D+ (io), 4 GND (power), 5 E_GND0 (power), 6 E_GND1 (power)

## USB_B_Mini
designator J?, comment USB B Mini  (value not drawn)
USB mini B type connector; Detailed: UJ2-MBH-1-SMT-TR
footprint USB_Mini_B_CUI_UJ2-MBH-1-SMT
pins: 0 Shield, 1 VBUS (power), 2 D- (io), 3 D+ (io), 4 ID (power), 5 GND (power)

## USBLC6-2SC6
designator U?
TVS DIODE 5.25V 17V SOT23-6; Detailed: USBLC6-2SC6
footprint SOT23-6-L
pins: 1 I/O1, 2 GND, 3 I/O2, 4 I/O2, 5 Vbus, 6 I/O1

## Varistor
designator VR?, comment 20K300V_Varistor
Varistor; ComponentLink2Description: AX; Value: 20K300V_Varistor
footprint Varistor
pins: 1, 2

## Varistor_6694459
designator V?, comment VARISTOR 39V 200A 1206  (value not drawn)
39V 200A Varistor 1 Circuit Surface Mount, MLCV 1206 (3216 Metric); Supplier 1: RSComponents; Supplier Part Number 1: 6694459
footprint 82541250 (39V 200A Varistor 1 Circuit Surface Mount, MLCV 1206 (3216 Metric))
pins: 1, 2

## Vida_3.25mm
designator V?  (value not drawn)
Vida Yuvası; 3.25 delik, 6 kafa
footprint Vida_3.25mm

## VNH5180A-E
designator U?
www.st.com/resource/en/datasheet/vnh5180a-e.pdf
footprint PowerSSO-36 TP (ECOPACK)
pins: 1 NC, 2 DRAIN LSA, 3 GND_A, 4 GND_A, 5 NC, 6 GND_A, 7 GND_A, 8 DRAIN LSA, 9 NC, 10 SOURCE HSA, 11 SOURCE HSA, 12 SOURCE HSA, 13 VCC, 14 NC, 15 IN_A, 16 EN/DIAG_A, 17 IN_PWM, 18 NC, 19 CS, 20 CS_DIS, 21 EN/DIAG_B, 22 IN_B, 23 NC, 24 VCC, 25 SOURCE HSB, 26 SOURCE HSB, 27 SOURCE HSB, 28 NC, 29 DRAIN LSB, 30 GND_B, 31 GND_B, 32 NC, 33 GND_B, 34 GND_B, 35 DRAIN LSB, 36 NC

## VO14642
designator U?
Solid State Relay; Model: *; Value: VO14642
footprint SMD-6_2.54mm
pins: 1 Anode (in), 2 Cathode (in), 3 NC, 4 Load (out), 5 DC, 6 Load (out)

## VS-MBRB1635PBF
designator D?
Schottky Diode,16a; ComponentLink2Description: SMD; Value: VS-MBRB1635PBF
signal-integrity model D Schottky
footprint DDPAK (TO-263-3, D²Pak (2 Leads + Tab), TO-263AB); pin to pad 1>2 2>3
pins: 1 A, 2 K

## WIZ610wi
designator U?, comment WIZ601wi
WızNet 610wi
footprint WızNet 610wi
pins: 1 CTS (in), 2 RTS (out), 3 NC, 4 HW_Trigger, 5 RS232_Led, 6 NC, 7 UART_TXD (out), 8 UART_RXD (in), 9 Vcc, 10 Vcc, 11 Gnd, 12 Gnd, 13 RXERR (in), 14 COL (in), 15 W_Led, 16 MDC (in), 17 ~{RESET}, 18 MDIO (io), 19 Gnd, 20 Gnd, 21 RXC (in), 22 RXDV (in), 23 RXD2, 24 RXD0, 25 RXD1, 26 RXD3, 27 Gnd, 28 Gnd, 29 TXC, 30 TXEN, 31 TXD3, 32 TXD2, 33 TXD0, 34 TXD1, 35 GND, 36 CRS, 37 NC, 38 NC, 39 NC, 40 NC, 41 NC, 42 NC, 43 NC, 44 NC, 45 NC, 46 NC, 47 NC, 48 NC, 49 NC, 50 NC, 51 NC, 52 NC, 53 NC, 54 NC, 55 NC, 56 NC

## WT-11
designator U?
Bluegiga WT-11 Bluetooth Module; Value: WT-11; ComponentLink2Description: SMD; ComponentLink3Description: ???
footprint WT-11 Footprint (Bluegiga WT-11 Footprint)
pins: 1 GND (power), 2 VDD, 3 PIO2 (io), 4 PIO3 (io), 5 NRTS (io), 6 RXD (in), 7 PCMO (io), 8 USB_D+ (io), 9 USB_D- (io), 10 NCTS (io), 11 PCMI (io), 12 PCMC (io), 13 PCMS (io), 14 GND (power), 15 GND (power), 16 VDD (power), 17 RES (io), 18 PIO6 (io), 19 PIO7 (io), 20 PIO4 (io), 21 NCSB (io), 22 SCLK (io), 23 MISO (io), 24 MOSI (io), 25 PIO5 (io), 26 TXD (out), 27 AIO (io), 28 GND (power)

## WT-41
designator U?
Bluegiga WT-41 High Power Bluetooth Module; Value: WT-41
footprint WT-41 Footprint (Bluegiga WT-41 Footprint)
pins: 2 GND (power), 3 GND (power), 4 GND (power), 5 GND (power), 6 GND (power), 7 GND (power), 8 GND (power), 9 GND (power), 10 GND (power), 11 VDD_PA (power), 12 PIO2 (io), 13 PIO3 (io), 14 RTS (io), 15 RXD (in), 16 GND (power), 17 USB_D+ (io), 18 USB_D- (io), 19 CTS (io), 20 PCM_IN (io), 21 PCM_CLK (io), 22 PCM_SYNC (io), 23 GND (power), 24 GND (power), 25 PCM_OUT (out), 26 GND (power), 27 GND (power), 28 GND (power), 29 PIO4 (io), 30 GND (power), 31 GND (power), 32 VDD (power), 33 RESET (in), 34 PIO6 (io), 35 PIO7 (io), 36 GND (power), 37 SPI_CSB (io), 38 SPI_CLK (io), 39 SPI_MISO (io), 40 SPI_MOSI (io), 41 PIO5 (io), 42 TXD (out), 43 AIO (io), 44 GND (power), 45 GND (power), 46 GND (power), 47 GND (power), 48 GND (power), 49 GND (power), 50 RFGND (power), 51 RF (out), 53 GND (power), 54 GND (power), 55 GND (power), 56 GND (power), 57 GND (power), 58 GND (power), 59 GND (power)

## XBP15SRV05W
designator D?  (value not drawn)
10V Clamp 3A (8/20µs) Ipp Tvs Diode Surface Mount SOT-26P; Manufacturer: Torex Semiconductor Ltd; Manufacturer Part Number: XBP15SRV05W-G; Digi-Key Part Number: 893-1422-2-ND
footprint SOT-26P
pins: 1 IO, 2 GND, 3 IO, 4 IO, 5 IO, 6 IO

## XR3160E
designator U?
Multiprotocol Transceiver-RS232&RS485; Value: XR3160E
footprint SSOP20 (SOP, 20-Leads, Body 7,20x5,30mm, Pitch 0,65mm, IPC Medium Density)
pins: 1 C1+ (power) "Charge pump cap 1 positive lead", 2 VCC (power) "Main Supply", 3 C1- (power) "Charge pump cap 1 negative lead", 4 GND (power) "Ground", 5 T1OUT,B/Z (io) "Transmitter 1 Output, B/Z Neg Input/Output", 6 T2OUT,A/Y (io) "Transmitter 2 Output, A/Y Pos Input/Output", 7 R1OUT (out) "Receiver 1 Output, Receiver TTL Output", 8 R2OUT,RO (out) "Receiver 2 Output, Receiver TTL Output", 9 ~{SHDN} "Low power shutdown mode when low", 10 ~{SLEW} "Data rate limited to 250kbps when low", 11 RS-485/~{RS-232} "Protocol Select", 12 HALF/~{FULL} "RS485 Mode Selcect", 13 R2IN,A (in) "Receiver 2 Input", 14 R1IN,B (in) "Receiver 1 Input", 15 T2IN,DE (in) "Transmitter 2 Input, Driver enabled when high", 16 T1IN,DI (in) "Transmitter 1 Input, Driver TTL Input", 17 V- (power) "Charge pump negative supply", 18 C2- (power) "Charge pump cap 2 negative lead", 19 C2+ (power) "Charge pump cap 2 positive lead", 20 V+ (power) "Charge pump positive supply"

## YFF31HC
designator F?, comment YFF31HC2A105M
3-terminal Filter for Large-current Power Line; Producer: TDK; ComponentLink2Description: SMD; Value: YFF31HC2A105M
footprint F.0805_3 (Chip Capacitor, Body 2.0x1.3mm, IPC High Density)
pins: 1, 2, 3